# Altium schematic symbol library SCH - CONNECTORS - TE 9-966140-1.Schlib: 1 symbol
Pins are listed as number, name and electrical type; pins without a type are passive.

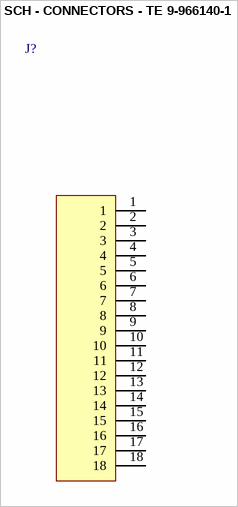
[diagram p0: symbol SCH - CONNECTORS - TE 9-966140-1]

## SCH - CONNECTORS - TE 9-966140-1
designator J?
footprint TE_9-966140-1
pins: 1, 2, 3, 4, 5, 6, 7, 8, 9, 10, 11, 12, 13, 14, 15, 16, 17, 18